# EAGLE library part 5051101092 (library Connector_2x16)
CONN FPC BOTTOM 10POS .5MM R/A Manufacturer's datasheet <https://www.molex.com/pdm_docs/sd/5051101092_sd.pdf>
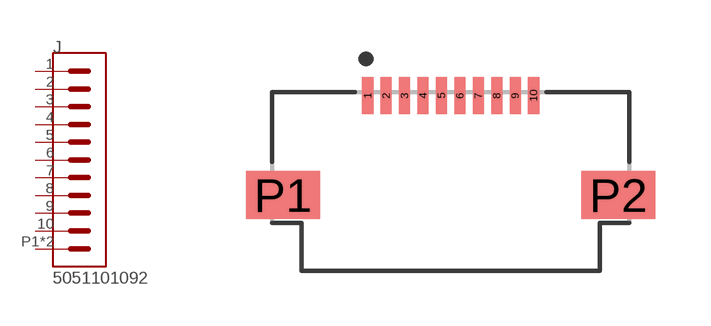
[diagram p20: symbol with the pads of 5051101092; footprint 5051101092]

Designator prefix J

## 5051101092 (CATEGORY: FFC & FPC Connectors; CREATED_BY: PCBLayout.com; DESCRIPTION: FFC & FPC Connectors 0.5 FPC ZIF BTM CONT EMBT PKG 10Ckt; DIGIKEY_PART_NUMBER: WM12366TR-ND; MANUFACTURER: Molex; MPN: 5051101092; OPERATING_TEMPERATURE: - 40 C to 105 C; ROHS_COMPLIANT: COMPLIANT; SERIES: 505110; SUB_CATEGORY: 10 Position Right angle SMD termination; TYPE: Headers; VALUE: 500 mA)  [5051101092]
1  1  pas
2  2  pas
3  3  pas
4  4  pas
5  5  pas
6  6  pas
7  7  pas
8  8  pas
9  9  pas
10  10  pas
P1  SHIELD  pwr
P2  SHIELD  pwr

## Footprint 5051101092 (pad centres in mm)
smd 0.3 x 1: 1 -2.25,0; 2 -1.75,0; 3 -1.25,0; 4 -0.75,0; 5 -0.25,0; 6 0.25,0; 7 0.75,0; 8 1.25,0; 9 1.75,0; 10 2.25,0
smd 2 x 1.3: P1 -4.55,-2.7; P2 4.55,-2.7